# Altium schematic symbol library Schlib1.SchLib: 2 symbols
Pins are listed as number, name and electrical type; pins without a type are passive.

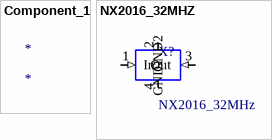
[diagram p0: symbols Component_1 to NX2016_32MHZ]

## Component_1
designator *

## NX2016_32MHZ
designator X?, comment NX2016_32MHz
32 Megahertz crystal oscillator
footprint PCBComponent_1
pins: 1 In (in), 2 GND1 (oc), 3 Out (in), 4 GND2 (oc)